# Altium schematic symbol library AC0805FR-072K2L.SchLib: 1 symbol
Pins are listed as number, name and electrical type; pins without a type are passive.

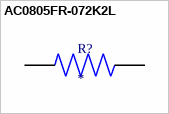
[diagram p0: symbol AC0805FR-072K2L]

## AC0805FR-072K2L
designator R?
Fixed Resistor, Metal Glaze/thick Film, 0.125W, 2200ohm, 150V, 1% +/-Tol, 100ppm/Cel, Surface Mount, 0805; MP: AC0805FR-072K2L; Package: None; Price: None; Value: *; Availability: Unavailable
footprint RESC2012X60N
pins: 1, 2